# Altium footprint library B3FS-1052.PcbLib: 1 footprints
Each footprint in its own frame and in the unit in brackets; x right, y up, seen from the top. Pads: shape width x height; smd on the part's side, far side on the other; paste and mask are expansions set on the pad; w line width, h text height; cw(c..) or ccw(c..) is an arc to the next point about the centre after c.
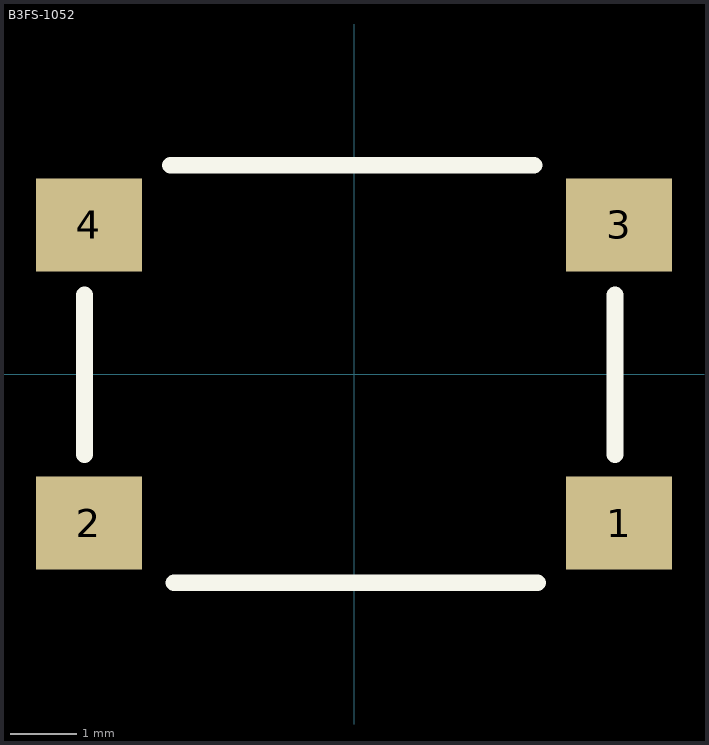
[diagram p0: the footprint, top view; thin cyan lines are the x and y axes]

## B3FS-1052 [mm]
pads (4):
  rect 1.6x1.4 smd: 1(4,-2.25) 2(-4,-2.25) 3(4,2.25) 4(-4,2.25)
Top Overlay:
  lines w0.254: -4.064,-1.219 -4.064,1.194 ; -2.769,3.15 2.718,3.15 ; -2.718,-3.15 2.769,-3.15 ; 3.936,-1.219 3.936,1.194
3D body: height 7.3, standoff 0, extent -4,-3.15 4,3.15